# EAGLE library part MIC5283 (library MIC5283)
MIC5283 Linear Voltage Regulators 120V/150mA Low PSSR Linear Regulator
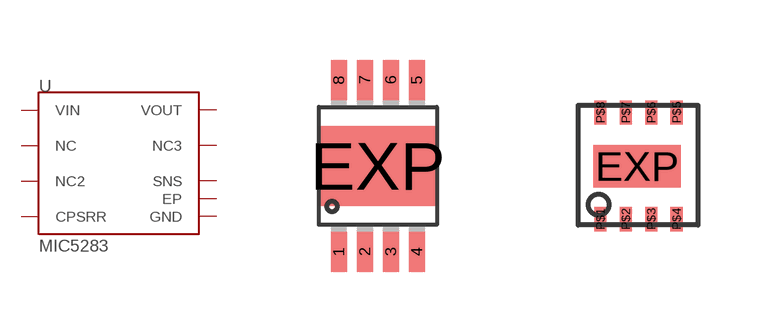
[diagram p1: symbol with the pads of MSOP08; footprints MSOP08, 8-VDFN]

Designator prefix -

## MIC5283 (MFG: Micrel; MFG#: MIC5283-5.0YME-TR)  [MSOP08]
1  VIN  in
2  NC  in
3  NC2  in
4  CPSRR  in
5  GND  pwr
6  SNS  in
7  NC3  out
8  VOUT  out
EXP  EP

## MIC5283QFD-8  [8-VDFN]
EXP  EP
P$1  VIN  in
P$2  NC  in
P$3  NC2  in
P$4  CPSRR  in
P$5  GND  pwr
P$6  SNS  in
P$7  NC3  out
P$8  VOUT  out

## Footprint MSOP08 (pad centres in mm)
MSOP08 DGN (R-PDSO-G8) MSOP-08
smd 0.4 x 1: 1 -0.975,-2.15; 2 -0.325,-2.15; 3 0.325,-2.15; 4 0.975,-2.15; 5 0.975,2.15; 6 0.325,2.15; 7 -0.325,2.15; 8 -0.975,2.15
smd 3 x 2: EXP 0,0

## Footprint 8-VDFN (pad centres in mm)
8-VDFN , 8-MLF - 8-QFD 3 x 3 mm http://cds.linear.com/docs/en/packaging/DFN_8_05-08-1698.pdf
smd 2.184 x 1.067: EXP 1.194,1.448
smd 0.305 x 0.61: P$1 0.279,0.127; P$2 0.914,0.127; P$3 1.549,0.127; P$4 2.184,0.127; P$5 2.184,2.794; P$6 1.549,2.794; P$7 0.914,2.794; P$8 0.279,2.794